# Altium footprint library AMPHENOL_10103592-0001LF.PcbLib: 1 footprints
Each footprint in its own frame and in the unit in brackets; x right, y up, seen from the top. Pads: shape width x height; smd on the part's side, far side on the other; paste and mask are expansions set on the pad; w line width, h text height; cw(c..) or ccw(c..) is an arc to the next point about the centre after c.
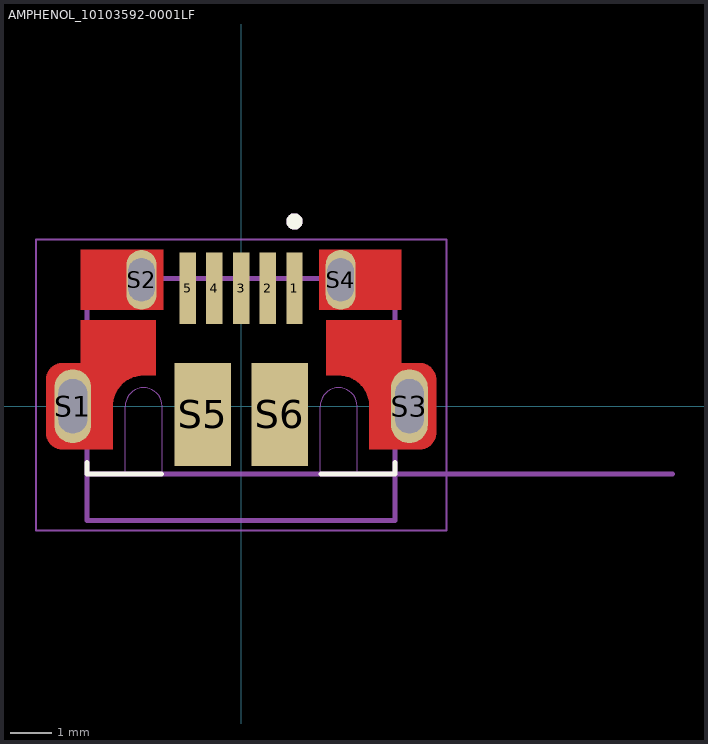
[diagram p0: the footprint, top view; thin cyan lines are the x and y axes]

## AMPHENOL_10103592-0001LF [mm]
height 3.25
pads (11):
  rect 0.4x1.75 smd: 1(1.3,2.875) 2(0.65,2.875) 3(0,2.875) 4(-0.65,2.875) 5(-1.3,2.875)
  oval 0.9x1.8 hole 0.7 slot 1.326 at 90 deg: S1(-4.1,0) S3(4.1,0)
  oval 0.73x1.46 hole 0.65 slot 1.05 at 90 deg: S2(-2.425,3.08) S4(2.425,3.08)
  rect 1.375x2.5 smd: S5(-0.937,-0.2) S6(0.937,-0.2)
Top Layer:
  region: -2.075,0.75 -2.375,0.75 -2.414,0.749 -2.453,0.746 -2.492,0.741 -2.531,0.734 -2.569,0.724 -2.607,0.713 -2.644,0.7 -2.68,0.685 -2.715,0.668 -2.75,0.65 -2.783,0.629 -2.816,0.607 -2.847,0.583 -2.877,0.557 -2.905,0.53 -2.932,0.502 -2.958,0.472 -2.982,0.441 -3.004,0.408 -3.025,0.375 -3.043,0.34 -3.06,0.305 -3.075,0.269 -3.088,0.232 -3.099,0.194 -3.109,0.156 -3.116,0.117 -3.121,0.078 -3.124,0.039 -3.125,0 -3.125,-1.05 -4.35,-1.05 -4.371,-1.049 -4.392,-1.048 -4.413,-1.045 -4.433,-1.041 -4.454,-1.036 -4.474,-1.03 -4.493,-1.023 -4.513,-1.015 -4.532,-1.006 -4.55,-0.996 -4.568,-0.985 -4.585,-0.974 -4.602,-0.961 -4.618,-0.947 -4.633,-0.933 -4.647,-0.918 -4.661,-0.902 -4.674,-0.885 -4.685,-0.868 -4.696,-0.85 -4.706,-0.832 -4.715,-0.813 -4.723,-0.793 -4.73,-0.774 -4.736,-0.754 -4.741,-0.733 -4.745,-0.713 -4.748,-0.692 -4.749,-0.671 -4.75,-0.65 -4.75,0.65 -4.749,0.671 -4.748,0.692 -4.745,0.713 -4.741,0.733 -4.736,0.754 -4.73,0.774 -4.723,0.793 -4.715,0.813 -4.706,0.832 -4.696,0.85 -4.685,0.868 -4.674,0.885 -4.661,0.902 -4.647,0.918 -4.633,0.933 -4.618,0.947 -4.602,0.961 -4.585,0.974 -4.568,0.985 -4.55,0.996 -4.532,1.006 -4.513,1.015 -4.493,1.023 -4.474,1.03 -4.454,1.036 -4.433,1.041 -4.413,1.045 -4.392,1.048 -4.371,1.049 -4.35,1.05 -3.9,1.05 -3.9,2.1 -2.075,2.1
  region: -1.9,2.35 -3.9,2.35 -3.9,3.81 -1.9,3.81
  region: 3.9,1.05 4.35,1.05 4.371,1.049 4.392,1.048 4.413,1.045 4.433,1.041 4.454,1.036 4.474,1.03 4.493,1.023 4.513,1.015 4.532,1.006 4.55,0.996 4.568,0.985 4.585,0.974 4.602,0.961 4.618,0.947 4.633,0.933 4.647,0.918 4.661,0.902 4.674,0.885 4.685,0.868 4.696,0.85 4.706,0.832 4.715,0.813 4.723,0.793 4.73,0.774 4.736,0.754 4.741,0.733 4.745,0.713 4.748,0.692 4.749,0.671 4.75,0.65 4.75,-0.65 4.749,-0.671 4.748,-0.692 4.745,-0.713 4.741,-0.733 4.736,-0.754 4.73,-0.774 4.723,-0.793 4.715,-0.813 4.706,-0.832 4.696,-0.85 4.685,-0.868 4.674,-0.885 4.661,-0.902 4.647,-0.918 4.633,-0.933 4.618,-0.947 4.602,-0.961 4.585,-0.974 4.568,-0.985 4.55,-0.996 4.532,-1.006 4.513,-1.015 4.493,-1.023 4.474,-1.03 4.454,-1.036 4.433,-1.041 4.413,-1.045 4.392,-1.048 4.371,-1.049 4.35,-1.05 3.125,-1.05 3.125,0 3.124,0.039 3.121,0.078 3.116,0.117 3.109,0.156 3.099,0.194 3.088,0.232 3.075,0.269 3.06,0.305 3.043,0.34 3.025,0.375 3.004,0.408 2.982,0.441 2.958,0.472 2.932,0.502 2.905,0.53 2.877,0.557 2.847,0.583 2.816,0.607 2.783,0.629 2.75,0.65 2.715,0.668 2.68,0.685 2.644,0.7 2.607,0.713 2.569,0.724 2.531,0.734 2.492,0.741 2.453,0.746 2.414,0.749 2.375,0.75 2.075,0.75 2.075,2.1 3.9,2.1
  region: 3.9,2.35 1.9,2.35 1.9,3.81 3.9,3.81
Top Overlay:
  circle w0.2: c1.3,4.5 r0.1
  lines w0.127: -3.75,-1.37 -3.75,-1.65 -1.945,-1.65 ; 1.945,-1.65 3.75,-1.65 3.75,-1.37
Top Paste:
  drawing of 4 lines, arcs and shapes, not listed
Top Solder:
  drawing of 4 lines, arcs and shapes, not listed
Mechanical 1:
  lines w0: -2.825,-1.65 -2.825,0 cw(c-2.375,0) -2.375,0.45 cw(c-2.375,0) -1.925,0 -1.925,-1.65 ; 1.925,-1.65 1.925,0 cw(c2.375,0) 2.375,0.45 cw(c2.375,0) 2.825,0 2.825,-1.65
Mechanical 13:
  circle w0.2: c1.3,4.5 r0.1
  lines w0.127: 10.5,-1.65 3.75,-1.65 ; -3.75,-1.65 3.75,-1.65 ; -3.75,-1.65 -3.75,3.11 3.75,3.11 3.75,-1.65 ; -3.75,-1.65 -3.75,-2.78 3.75,-2.78 3.75,-1.65
  text "PCB EDGE" at 5.225,-1.438 h0.81
Mechanical 15:
  lines w0.05: -5,-3.03 -5,4.06 5,4.06 5,-3.03 -5,-3.03
3D body "step_temp.STEP": height 2.77, standoff -0.75, extent -4.25,-2.748 4.25,3.232